# Altium integrated library LED.IntLib: 2 symbols
Pins are listed as number, name and electrical type; pins without a type are passive.

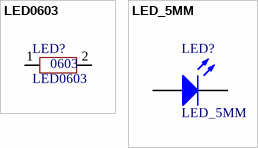
[diagram p0: symbols LED0603 to LED_5MM]

## LED0603
designator LED?
footprint LED0603 (Chip LED, 2-Leads, Body 1.6x0.8mm, IPC High Density)
pins: 1, 2
text: 0603

## LED_5MM
designator LED?
Typical INFRARED GaAs LED; Published: 8-Jun-2000; LatestRevisionDate: 08-Jul-2005; LatestRevisionNote: Mech Layer 1 removed.; PackageReference: LED-0; Publisher: Altium Limited
footprint LED_5MM_RED
footprint LED_5MM_GREEN
footprint LED_5MM_YELLOW
pins: 1 A, 2 K